# EAGLE library part LMV722 (library sjg-opamp)
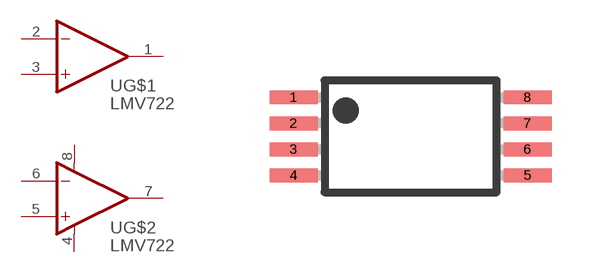
[diagram p3: symbol with the pads of TSSOP8; footprint TSSOP8]

Designator prefix -; gates G$1=OP_INVERTED G$2=OPUB_INVERTED

## LMV722  [TSSOP8]
1  G$1:OUT  out
2  G$1:-IN  in
3  G$1:+IN  in
4  G$2:V-  pwr
5  G$2:+IN  in
6  G$2:-IN  in
7  G$2:OUT  out
8  G$2:V+  pwr

## Footprint TSSOP8 (pad centres in mm)
Plastic Small Outline
smd 1.2 x 0.35: 1 -2.925,0.975; 2 -2.925,0.325; 3 -2.925,-0.325; 4 -2.925,-0.975; 5 2.925,-0.975; 6 2.925,-0.325; 7 2.925,0.325; 8 2.925,0.975